# Altium footprint library Seeed-OPL-Resistor.PCBLIB: 55 footprints (part 4 of 4)
Each footprint in its own frame and in the unit in brackets; x right, y up, seen from the top. Pads: shape width x height; smd on the part's side, far side on the other; paste and mask are expansions set on the pad; w line width, h text height; cw(c..) or ccw(c..) is an arc to the next point about the centre after c.
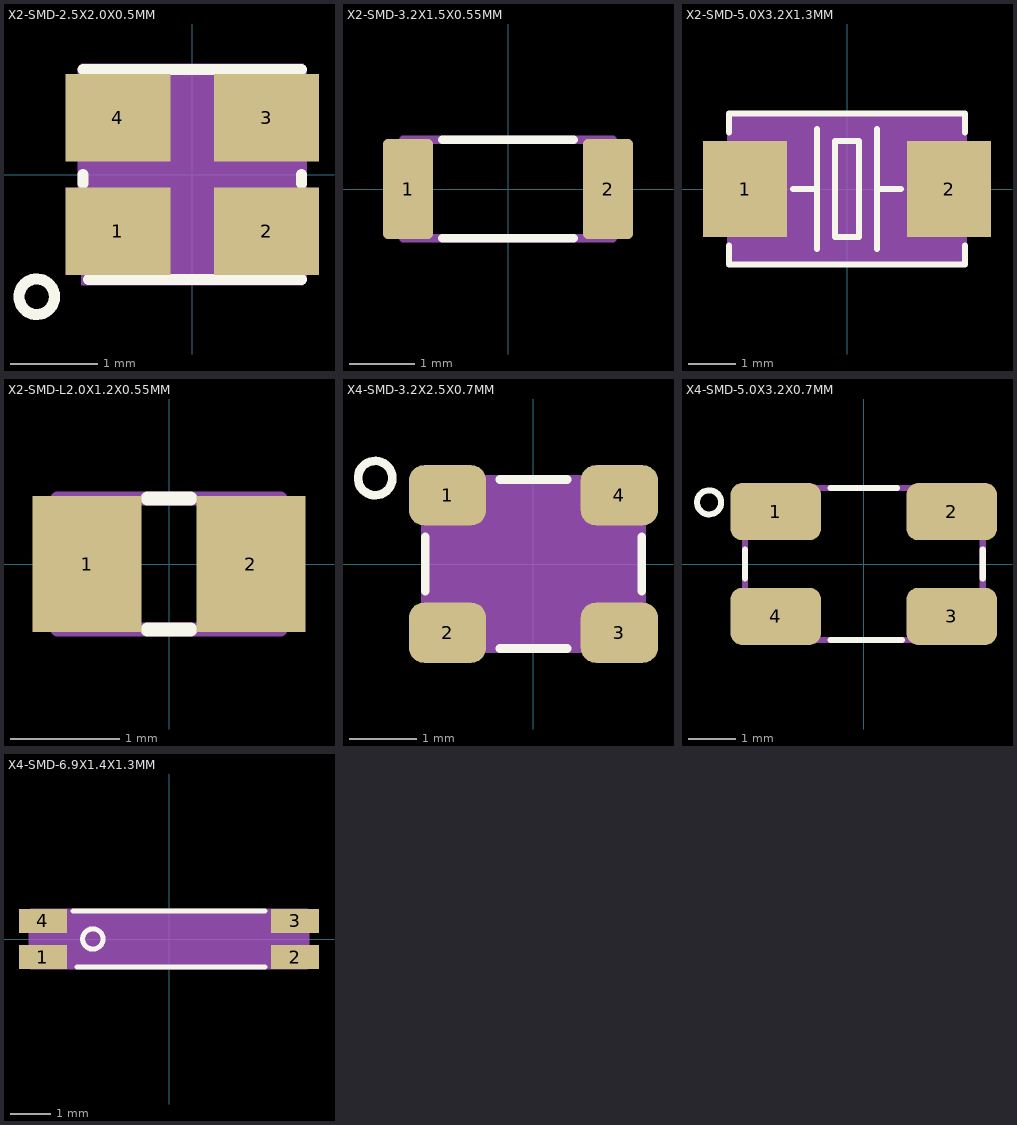
[diagram p3: the footprints below, top view; thin cyan lines are the x and y axes]

## X2-SMD-2.5X2.0X0.5MM [mm]
pads (4):
  rect 1.2x1 smd: 1(-0.85,-0.65) 2(0.85,-0.65) 3(0.85,0.65) 4(-0.85,0.65)
Top Overlay:
  circle w0.127: c-1.778,-1.397 r0.203
  lines w0.127: -1.25,-0.1 -1.25,0 ; -1.25,1.2 1.25,1.2 ; -1.184,-1.2 1.25,-1.2 ; 1.25,-0.1 1.25,0
Mechanical 16:
  lines w0.127: -1.25,1.2 -1.25,-0.835 -0.884,-1.2 ; 1.25,-1.2 1.25,1.2
Mechanical 27:
  rectangle: -1.27,-1.27 1.27,1.27

## X2-SMD-3.2X1.5X0.55MM [mil]
pads (2):
  rrect20% 30x60 smd: 1(-60,0) 2(60,0)
Top Overlay:
  lines w5: -39.37,-29.53 39.37,-29.53 ; -39.37,29.53 39.37,29.53
Mechanical 16:
  lines w5: -62.99,-29.53 62.99,-29.53 62.99,29.53 -62.99,29.53 -62.99,-29.53

## X2-SMD-5.0X3.2X1.3MM [mil]
pads (2):
  rect 70x80 smd: 1(-85,0) 2(85,0)
Top Overlay:
  lines w5: -98.43,-47.24 -98.43,-62.99 98.43,-62.99 98.43,-47.24 ; -98.43,47.24 -98.43,62.99 98.43,62.99 98.43,47.24 ; -45,0 -25,0 ; -25,-50 -25,0 ; -25,50 -25,0 ; 25,-50 25,0 ; 25,50 25,0 ; 45,0 25,0 ; -10,-40 -10,40 10,40 10,-40 -10,-40
Mechanical 16:
  rectangle: -100,-40 -50,40
  rectangle: 50,-40 100,40
Mechanical 27:
  rectangle: -100,-65 100,65

## X2-SMD-L2.0X1.2X0.55MM [mm]
pads (2):
  rect 1x1.25 smd: 1(-0.75,0) 2(0.75,0)
Top Overlay:
  lines w0.127: -0.2,-0.6 0.2,-0.6 ; -0.2,0.6 0.2,0.6
Mechanical 16:
  lines w0.127: -1.025,-0.6 1.025,-0.6 1.025,0.6 -1.025,0.6 -1.025,-0.6

## X4-SMD-3.2X2.5X0.7MM [mil]
pads (4):
  rrect50% 45x35 smd: 1(-50,40) 2(-50,-40) 3(50,-40) 4(50,40)
Top Overlay:
  circle w5: c-92.13,50 r10
  lines w5: -62.99,-15.75 -62.99,15.75 ; -19.69,-49.21 19.69,-49.21 ; -19.69,49.21 19.69,49.21 ; 62.99,-15.75 62.99,15.75
Mechanical 16:
  lines w5: -62.99,-49.21 62.99,-49.21 62.99,49.21 -62.99,49.21 -62.99,-49.21
Mechanical 27:
  rectangle: -63,-50 63,50

## X4-SMD-5.0X3.2X0.7MM [mil]
pads (4):
  rrect40% 74.8x47.24 smd: 1(-72.83,43.31) 2(72.83,43.31) 3(72.83,-43.31) 4(-72.83,-43.31)
Top Overlay:
  circle w5: c-128,51 r10
  lines w5: -98.43,-11.81 -98.43,11.81 ; -27.56,-62.99 31.5,-62.99 ; -27.56,62.99 27.56,62.99 ; 98.43,-11.81 98.43,11.81
Mechanical 16:
  lines w5: -98.43,-62.99 98.43,-62.99 98.43,62.99 -98.43,62.99 -98.43,-62.99

## X4-SMD-6.9X1.4X1.3MM [mil]
pads (4):
  rect 47.24x23.62 smd: 1(-124.02,-17.72) 2(124.02,-17.72) 3(124.02,17.72) 4(-124.02,17.72)
Top Overlay:
  circle w5: c-75,0 r10
  lines w5: -94.49,27.56 94.49,27.56 ; -90.55,-27.56 94.49,-27.56
Mechanical 16:
  lines w5: -135.83,-27.56 135.83,-27.56 135.83,27.56 -135.83,27.56 -135.83,-27.56
Mechanical 27:
  rectangle: -135.83,-27.56 135.83,27.56